# Altium footprint library Full_lib.PcbLib: 247 footprints (part 12 of 16)
Each footprint in its own frame and in the unit in brackets; x right, y up, seen from the top. Pads: shape width x height; smd on the part's side, far side on the other; paste and mask are expansions set on the pad; w line width, h text height; cw(c..) or ccw(c..) is an arc to the next point about the centre after c.
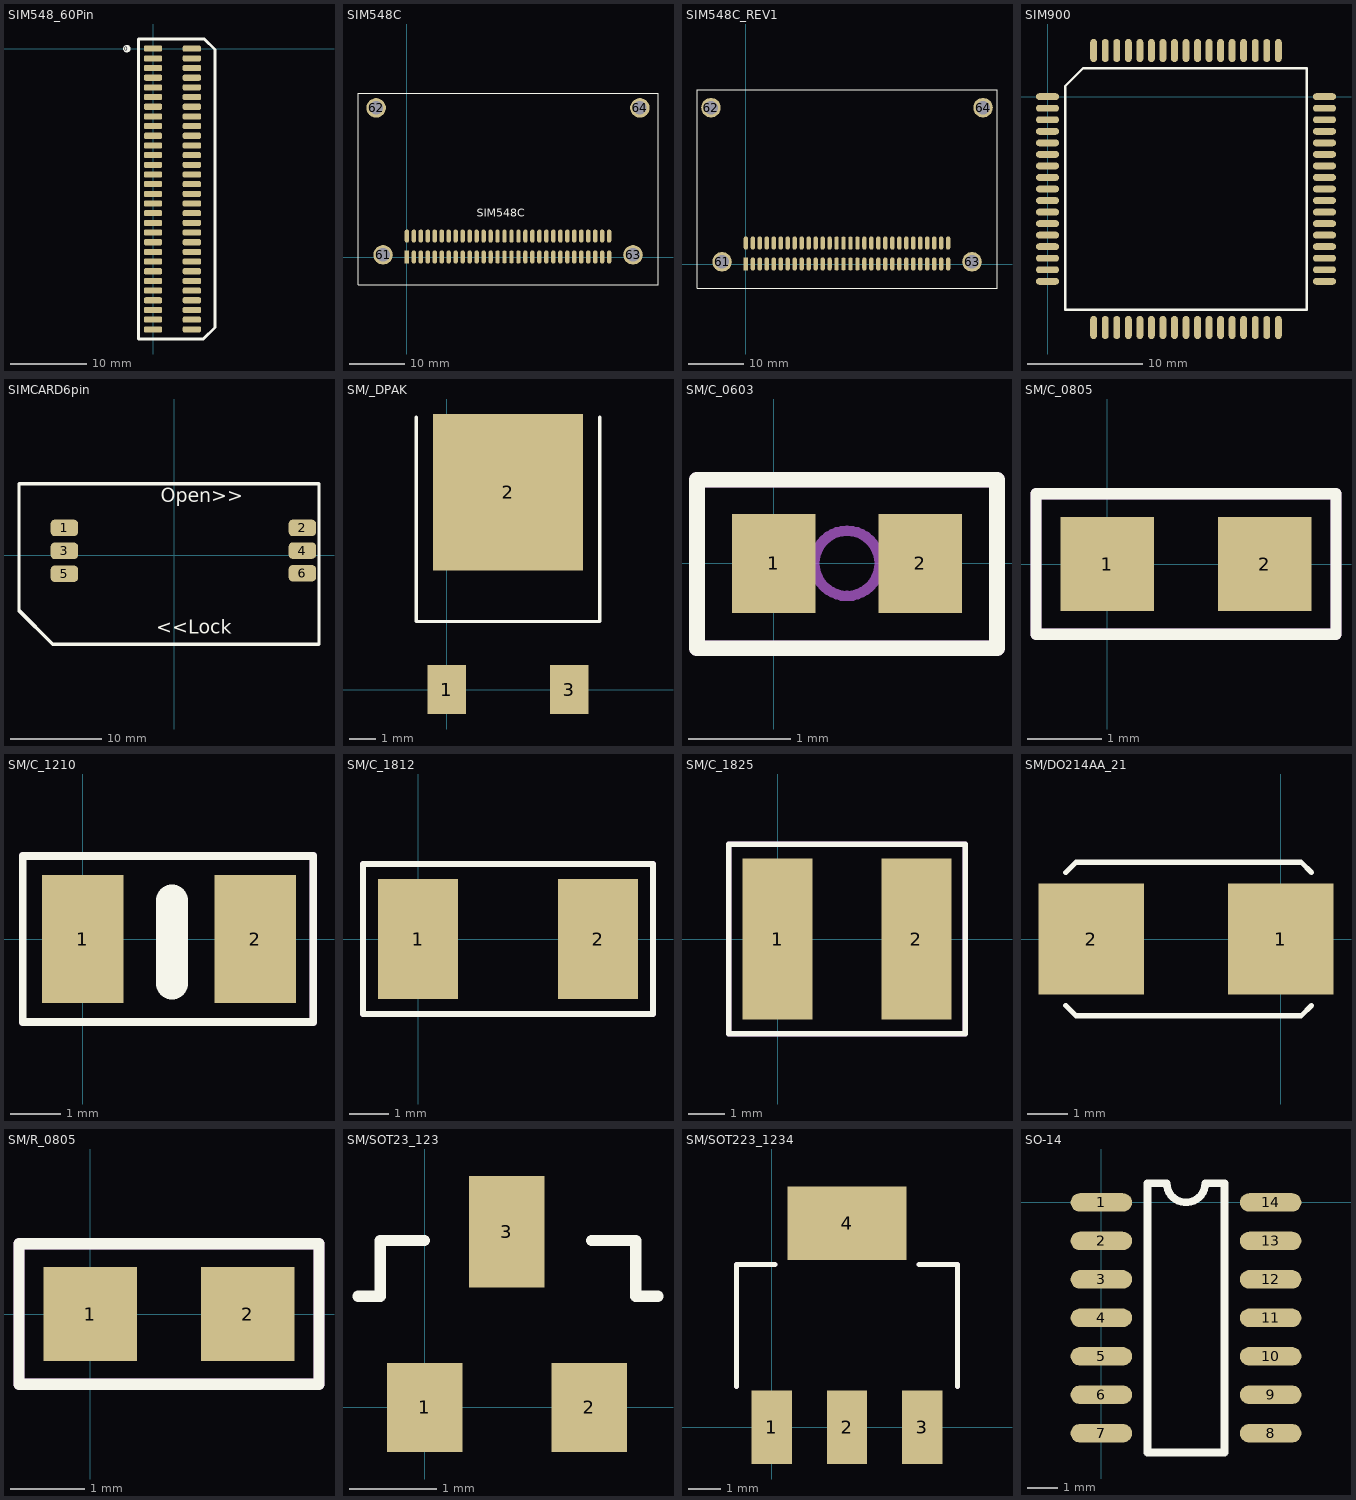
[diagram p11: the footprints below, top view; thin cyan lines are the x and y axes]

## SIM548_60Pin [mm]
height 8
pads (61):
  round 1 on Top Overlay: 0(-3.429,0)
  rrect50% 2.4x0.8 smd: 1(0,0) 2(5.1,0) 3(0,-1.27) 4(5.1,-1.27) 5(0,-2.54) 6(5.1,-2.54) 7(0,-3.81) 8(5.1,-3.81) 9(0,-5.08) 10(5.1,-5.08) 11(0,-6.35) 12(5.1,-6.35) 13(0,-7.62) 14(5.1,-7.62) 15(0,-8.89) 16(5.1,-8.89) 17(0,-10.16) 18(5.1,-10.16) 19(0,-11.43) 20(5.1,-11.43) 21(0,-12.7) 22(5.1,-12.7) 23(0,-13.97) 24(5.1,-13.97) 25(0,-15.24) 26(5.1,-15.24) 27(0,-16.51) 28(5.1,-16.51) 29(0,-17.78) 30(5.1,-17.78) 31(0,-19.05) 32(5.1,-19.05) 33(0,-20.32) 34(5.1,-20.32) 35(0,-21.59) 36(5.1,-21.59) 37(0,-22.86) 38(5.1,-22.86) 39(0,-24.13) 40(5.1,-24.13) 41(0,-25.4) 42(5.1,-25.4) 43(0,-26.67) 44(5.1,-26.67) 45(0,-27.94) 46(5.1,-27.94) 47(0,-29.21) 48(5.1,-29.21) 49(0,-30.48) 50(5.1,-30.48) 51(0,-31.75) 52(5.1,-31.75) 53(0,-33.02) 54(5.1,-33.02) 55(0,-34.29) 56(5.1,-34.29) 57(0,-35.56) 58(5.1,-35.56) 59(0,-36.83) 60(5.1,-36.83)
Top Overlay:
  lines w0.381: -1.905,-38.1 -1.905,1.27 6.731,1.27 8.128,-0.127 8.128,-36.576 6.604,-38.1 -1.905,-38.1

## SIM548C [mil]
pads (64):
  rect 31.5x94.47 smd: 1(0,0)
  oval 31.5x94.47 smd: 2(0,150) 3(50,0) 4(50,150) 5(100,0) 6(100,150) 7(150,0) 8(150,150) 9(200,0) 10(200,150) 11(250,0) 12(250,150) 13(300,0) 14(300,150) 15(350,0) 16(350,150) 17(400,0) 18(400,150) 19(450,0) 20(450,150) 21(500,0) 22(500,150) 23(550,0) 24(550,150) 25(600,0) 26(600,150) 27(650,0) 28(650,150) 29(700,0) 30(700,150) 31(750,0) 32(750,150) 33(800,0) 34(800,150) 35(850,0) 36(850,150) 37(900,0) 38(900,150) 39(950,0) 40(950,150) 41(1000,0) 42(1000,150) 43(1050,0) 44(1050,150) 45(1100,0) 46(1100,150) 47(1150,0) 48(1150,150) 49(1200,0) 50(1200,150) 51(1250,0) 52(1250,150) 53(1300,0) 54(1300,150) 55(1350,0) 56(1350,150) 57(1400,0) 58(1400,150) 59(1450,0) 60(1450,150)
  round 140 hole 98.43: 61(-170.47,15.95) 62(-219.68,1069.28) 63(1620.87,15.95) 64(1670.08,1069.28)
Top Overlay:
  lines w5: -350,-200 1800,-200 1800,1175 -325,1175 -350,1175 -350,-200
  text "SIM548C" at 500,287.5 h56.25

## SIM548C_REV1 [mil]
pads (64):
  rect 31.5x94.47 smd: 1(0,0)
  oval 31.5x94.47 smd: 2(0,150) 3(50,0) 4(50,150) 5(100,0) 6(100,150) 7(150,0) 8(150,150) 9(200,0) 10(200,150) 11(250,0) 12(250,150) 13(300,0) 14(300,150) 15(350,0) 16(350,150) 17(400,0) 18(400,150) 19(450,0) 20(450,150) 21(500,0) 22(500,150) 23(550,0) 24(550,150) 25(600,0) 26(600,150) 27(650,0) 28(650,150) 29(700,0) 30(700,150) 31(750,0) 32(750,150) 33(800,0) 34(800,150) 35(850,0) 36(850,150) 37(900,0) 38(900,150) 39(950,0) 40(950,150) 41(1000,0) 42(1000,150) 43(1050,0) 44(1050,150) 45(1100,0) 46(1100,150) 47(1150,0) 48(1150,150) 49(1200,0) 50(1200,150) 51(1250,0) 52(1250,150) 53(1300,0) 54(1300,150) 55(1350,0) 56(1350,150) 57(1400,0) 58(1400,150) 59(1450,0) 60(1450,150)
  round 140 hole 98.43: 61(-170.47,15.95) 62(-250,1120) 63(1620.87,15.95) 64(1700,1120)
Top Overlay:
  lines w5: -350,-175 -350,1250 1800,1250 1800,-175 -350,-175

## SIM900 [mm]
pads (68):
  oval 2x0.6 smd: 1(0,0) 2(0,-1) 3(0,-2) 4(0,-3) 5(0,-4) 6(0,-5) 7(0,-6) 8(0,-7) 9(0,-8) 10(0,-9) 11(0,-10) 12(0,-11) 13(0,-12) 14(0,-13) 15(0,-14) 16(0,-15) 17(0,-16) 35(24,-16) 36(24,-15) 37(24,-14) 38(24,-13) 39(24,-12) 40(24,-11) 41(24,-10) 42(24,-9) 43(24,-8) 44(24,-7) 45(24,-6) 46(24,-5) 47(24,-4) 48(24,-3) 49(24,-2) 50(24,-1) 51(24,0)
  oval 0.6x2 smd: 18(4,-20) 19(5,-20) 20(6,-20) 21(7,-20) 22(8,-20) 23(9,-20) 24(10,-20) 25(11,-20) 26(12,-20) 27(13,-20) 28(14,-20) 29(15,-20) 30(16,-20) 31(17,-20) 32(18,-20) 33(19,-20) 34(20,-20) 52(20,4) 53(19,4) 54(18,4) 55(17,4) 56(16,4) 57(15,4) 58(14,4) 59(13,4) 60(12,4) 61(11,4) 62(10,4) 63(9,4) 64(8,4) 65(7,4) 66(6,4) 67(5,4) 68(4,4)
Top Overlay:
  lines w0.2: 1.535,-18.465 1.535,0.93 3.07,2.465 22.465,2.465 22.465,-18.465 1.535,-18.465

## SIMCARD6pin [mm]
height 5.08
pads (6):
  rrect50% 3x1.8 smd: 1(-12,3) 2(14,3) 3(-12,0.5) 4(14,0.524) 5(-12,-2) 6(14,-1.953)
Top Overlay:
  lines w0.381: -16.953,-6.017 -16.953,7.826 15.813,7.826 15.813,-9.7 -13.27,-9.7 -16.953,-6.017
  text "<<Lock" at -1.967,-8.557 h1.52
  text "Open>>" at -1.459,5.794 h1.52

## SM/_DPAK [mil]
pads (3):
  rect 56x72 smd: 1(0,0) 3(180,0)
  rect 220x230 smd: 2(90,290)
Top Overlay:
  lines w5: -45,400 -45,100 225,100 225,400

## SM/C_0603 [mil]
pads (2):
  rect 32x38 smd: 1(0,0) 2(56,0)
Top Overlay:
  lines w6: -29.5,-32.5 85.5,-32.5 85.5,32 -29.5,32 -29.5,-32.5
Mechanical 1:
  lines w6: -29.5,-32.5 85.5,-32.5 85.5,32 -29.5,32 -29.5,-32.5
Mechanical 3:
  lines w4: 15.5,0 ccw(c28,0) 28,-12.5 ccw(c28,0) 40.5,0 ccw(c28,0) 28,12.5 ccw(c28,0) 15.5,0

## SM/C_0805 [mil]
pads (2):
  rect 50x50 smd: 1(0,0) 2(84,0)
Top Overlay:
  lines w6: -38,-37.5 122,-37.5 122,37.5 -38,37.5 -38,-37.5
Mechanical 1:
  lines w6: -38,-37.5 122,-37.5 122,37.5 -38,37.5 -38,-37.5

## SM/C_1210 [mil]
height 250
pads (2):
  rect 64x100 smd: 1(0,0) 2(135,0)
Top Overlay:
  lines w6: -47,-65 180.5,-65 180.5,65 -47,65 -47,-65
  lines w25: 70,-35 70,30
Mechanical 1:
  lines w6: -47,-65 180.5,-65 180.5,65 -47,65

## SM/C_1812 [mil]
pads (2):
  rect 80x120 smd: 1(0,0) 2(180,0)
Top Overlay:
  lines w6: -55,-75 235,-75 235,75 -55,75 -55,-75
Mechanical 1:
  lines w6: -55,-75 235,-75 235,75 -55,75 -55,-75

## SM/C_1825 [mil]
pads (2):
  rect 76x174 smd: 1(0,0) 2(150,0)
Top Overlay:
  lines w6: -52.5,-102.5 202.5,-102.5 202.5,102.5 -52.5,102.5 -52.5,-102.5
Mechanical 1:
  lines w6: -52.5,-102.5 202.5,-102.5 202.5,102.5 -52.5,102.5 -52.5,-102.5

## SM/DO214AA_21 [mil]
pads (2):
  rect 103x108 smd: 1(0,0) 2(-185,0)
Top Overlay:
  lines w5: -210,-65 -200,-75 20,-75 30,-65 ; -210,65 -200,75 20,75 30,65

## SM/R_0805 [mil]
pads (2):
  rect 50x50 smd: 1(0,0) 2(84,0)
Top Overlay:
  lines w6: -38,-37.5 -38,37.5 122,37.5 122,-37.5 -38,-37.5
Mechanical 1:
  lines w6: -38,-37.5 -38,37.5 122,37.5 122,-37.5 -38,-37.5

## SM/SOT23_123 [mil]
pads (3):
  rect 34x40 smd: 1(0,0) 2(74,0)
  rect 34x50 smd: 3(37,79)
Top Overlay:
  lines w5: -30,50 -20,50 -20,75 0,75 ; 75,75 95,75 95,50 105,50

## SM/SOT223_1234 [mil]
pads (4):
  rect 48x88 smd: 1(0,0) 2(90,0) 3(180,0)
  rect 142x88 smd: 4(90,244)
Top Overlay:
  lines w6: -42,49 -42,195 4,195 ; 176,195 222,195 222,49
Mechanical 1:
  lines w6: -42,49 -42,195 4,195 ; 176,195 222,195 222,49

## SO-14 [mil]
pads (14):
  oval 80x24 smd: 1(0,0) 2(0,-50) 3(0,-100) 4(0,-150) 5(0,-200) 6(0,-250) 7(0,-300) 8(220,-300) 9(220,-250) 10(220,-200) 11(220,-150) 12(220,-100) 13(220,-50) 14(220,0)
Top Overlay:
  lines w10: 60,-325 60,25 85,25 ccw(c110,25) 135,25 160,25 160,-325 60,-325